# Altium integrated library ERJP06F4701V.IntLib: 1 symbol
Pins are listed as number, name and electrical type; pins without a type are passive.

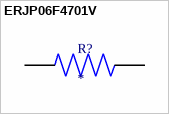
[diagram p0: symbol ERJP06F4701V]

## ERJP06F4701V
designator R?
MP: ERJP06F4701V; Value: *; Availability: Unavailable; Price: None; Package: None
footprint RES_ERJP06F4701V
pins: 1, 2